# Altium schematic symbol library MS5611-01BA01.SchLib: 1 symbol
Pins are listed as number, name and electrical type; pins without a type are passive.

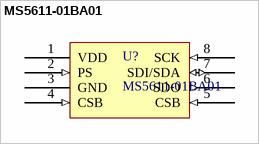
[diagram p0: symbol MS5611-01BA01]

## MS5611-01BA01
designator U?
MS5611-01BA01 Barometric Pressure Sensor; Manufacturer: measurement specialties; Reference: MS561101BA03-50
footprint MS5611-01BA01
pins: 1 VDD (power), 2 PS (in), 3 GND (power), 4 CSB (in), 5 CSB (in), 6 SDO (out), 7 SDI/SDA (io), 8 SCK (in)